# Altium schematic symbol library ERJ-14NF1372U.SchLib: 1 symbol
Pins are listed as number, name and electrical type; pins without a type are passive.

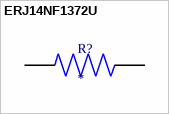
[diagram p0: symbol ERJ14NF1372U]

## ERJ14NF1372U
designator R?
MF: {'manufacturer': u'Panasonic'}; MP: ERJ14NF1372U; Package: None; Price: None; Availability: Unavailable; Value: *
footprint RES_ERJ14NF1372U
pins: 1, 2